# EAGLE library part 4308R-102-470LF (library 154N_NAU7802_TH)
Res Thick Film NET 47 Ohm 1 Ohm 1W +/-250ppm/C ISOL Molded 8-Pin SIP Pin Thru-Hole Source: Datasheet <https://www.arrow.com/en/products/4308r-102-470lf/bourns>
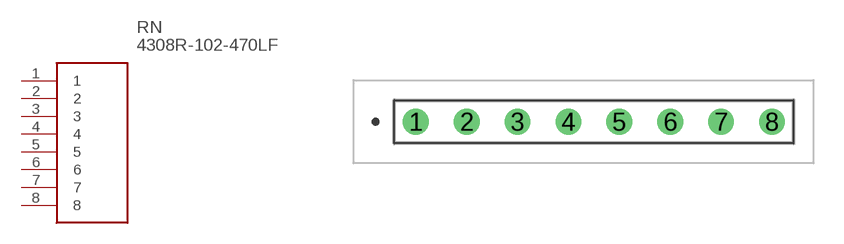
[diagram p0: symbol with the pads of 4308R102470LF; footprint 4308R102470LF]

Designator prefix RN

## 4308R-102-470LF (DESCRIPTION: Res Thick Film NET 47 Ohm 1 Ohm 1W +/-250ppm/C ISOL Molded 8-Pin SIP Pin Thru-Hole; HEIGHT: 4.95mm; MANUFACTURER_NAME: Bourns; MANUFACTURER_PART_NUMBER: 4308R-102-470LF)  [4308R102470LF]
1  1
2  2
3  3
4  4
5  5
6  6
7  7
8  8

## Footprint 4308R102470LF (pad centres in mm)
4308R-102-470LF-2
drill 0.75 pad 1.286: 1 0,0; 2 2.54,0; 3 5.08,0; 4 7.62,0; 5 10.16,0; 6 12.7,0; 7 15.24,0; 8 17.78,0